# Altium integrated library Lattice CPLD ispMACH 5000B.IntLib: 54 symbols (part 6 of 6)
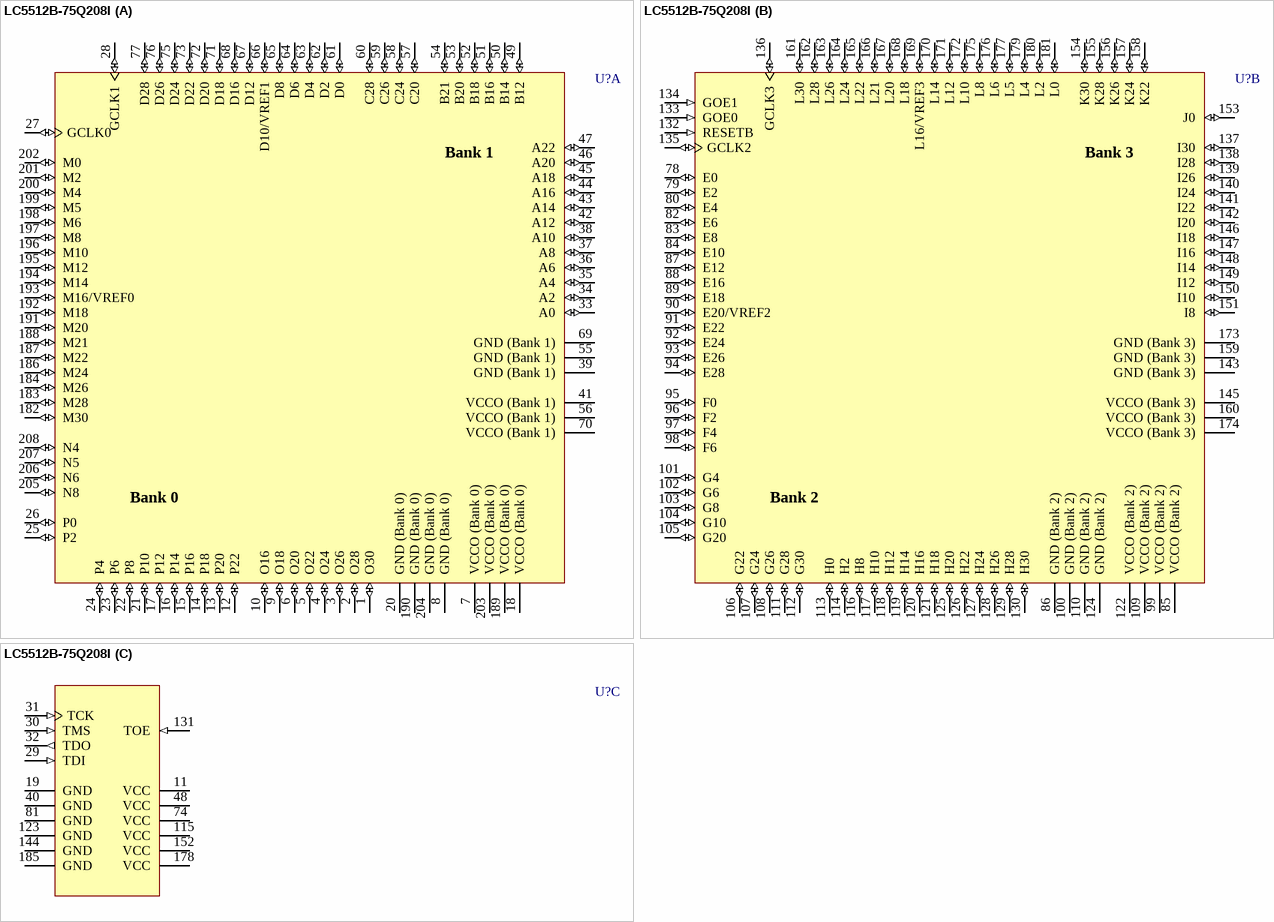
[diagram p49: symbol LC5512B-75Q208I]

## LC5512B-75Q208I
designator U?
ispMACH 5512B SuperWIDE, High Density PLD, 2.5 V, 156 User I/Os, 208-Pin PQFP, 7.5 ns, Industrial Grade; Published: 17-Dec-2003; LatestRevisionDate: 13-Apr-2006; LatestRevisionNote: IPC-7351 Footprint Added.; DatasheetVersion: 5kb_11.1 (Sep-2003); PackageVersion: pkg_32, Aug-2005; PackageReference: PQFP208; Publisher: Altium Limited; PackageDescription: 208-Pin Plastic Quad Flat Pack (PQFP208); Code_JEDEC: MO-143-FAI; ComponentLink1Description: Manufacturer Link; ComponentLink1URL: http://www.latticesemi.com/; ComponentLink2Description: Datasheet; ComponentLink2URL: http://www.latticesemi.com/account/_download.cfm?AMID=4957; ComponentLink3Description: Lattice Login; ComponentLink3URL: http://www.latticesemi.com/account/login.cfm
footprint PQFP208_N (Shrink QFP, 208-Leads, Body 28x28mm, Pitch 0.5mm, IPC Medium Density)
footprint PQFP208_L (Shrink QFP, 208-Leads, Body 28x28mm, Pitch 0.5mm, IPC High Density)
footprint PQFP208_M (Shrink QFP, 208-Leads, Body 28x28mm, Pitch 0.5mm, IPC Low Density)
3D model 5512B-PQFP208 (208-Pin Plastic Quad Flat Pack (PQFP208))
part A pins: 1 O30 (io), 2 O28 (io), 3 O26 (io), 4 O24 (io), 5 O22 (io), 6 O20 (io), 7 VCCO (Bank 0) (power), 8 GND (Bank 0) (power), 9 O18 (io), 10 O16 (io), 12 P22 (io), 13 P20 (io), 14 P18 (io), 15 P16 (io), 16 P14 (io), 17 P12 (io), 18 VCCO (Bank 0) (power), 20 GND (Bank 0) (power), 21 P10 (io), 22 P8 (io), 23 P6 (io), 24 P4 (io), 25 P2 (io), 26 P0 (io), 27 GCLK0 (io), 28 GCLK1 (io), 33 A0 (io), 34 A2 (io), 35 A4 (io), 36 A6 (io), 37 A8 (io), 38 A10 (io), 39 GND (Bank 1) (power), 41 VCCO (Bank 1) (power), 42 A12 (io), 43 A14 (io), 44 A16 (io), 45 A18 (io), 46 A20 (io), 47 A22 (io), 49 B12 (io), 50 B14 (io), 51 B16 (io), 52 B18 (io), 53 B20 (io), 54 B21 (io), 55 GND (Bank 1) (power), 56 VCCO (Bank 1) (power), 57 C20 (io), 58 C24 (io), 59 C26 (io), 60 C28 (io), 61 D0 (io), 62 D2 (io), 63 D4 (io), 64 D6 (io), 65 D8 (io), 66 D10/VREF1 (io), 67 D12 (io), 68 D16 (io), 69 GND (Bank 1) (power), 70 VCCO (Bank 1) (power), 71 D18 (io), 72 D20 (io), 73 D22 (io), 75 D24 (io), 76 D26 (io), 77 D28 (io), 182 M30 (io), 183 M28 (io), 184 M26 (io), 186 M24 (io), 187 M22 (io), 188 M21 (io), 189 VCCO (Bank 0) (power), 190 GND (Bank 0) (power), 191 M20 (io), 192 M18 (io), 193 M16/VREF0 (io), 194 M14 (io), 195 M12 (io), 196 M10 (io), 197 M8 (io), 198 M6 (io), 199 M5 (io), 200 M4 (io), 201 M2 (io), 202 M0 (io), 203 VCCO (Bank 0) (power), 204 GND (Bank 0) (power), 205 N8 (io), 206 N6 (io), 207 N5 (io), 208 N4 (io)
part B pins: 78 E0 (io), 79 E2 (io), 80 E4 (io), 82 E6 (io), 83 E8 (io), 84 E10 (io), 85 VCCO (Bank 2) (power), 86 GND (Bank 2) (power), 87 E12 (io), 88 E16 (io), 89 E18 (io), 90 E20/VREF2 (io), 91 E22 (io), 92 E24 (io), 93 E26 (io), 94 E28 (io), 95 F0 (io), 96 F2 (io), 97 F4 (io), 98 F6 (io), 99 VCCO (Bank 2) (power), 100 GND (Bank 2) (power), 101 G4 (io), 102 G6 (io), 103 G8 (io), 104 G10 (io), 105 G20 (io), 106 G22 (io), 107 G24 (io), 108 G26 (io), 109 VCCO (Bank 2) (power), 110 GND (Bank 2) (power), 111 G28 (io), 112 G30 (io), 113 H0 (io), 114 H2 (io), 116 H8 (io), 117 H10 (io), 118 H12 (io), 119 H14 (io), 120 H16 (io), 121 H18 (io), 122 VCCO (Bank 2) (power), 124 GND (Bank 2) (power), 125 H20 (io), 126 H22 (io), 127 H24 (io), 128 H26 (io), 129 H28 (io), 130 H30 (io), 132 RESETB (in), 133 GOE0 (in), 134 GOE1 (in), 135 GCLK2 (io), 136 GCLK3 (io), 137 I30 (io), 138 I28 (io), 139 I26 (io), 140 I24 (io), 141 I22 (io), 142 I20 (io), 143 GND (Bank 3) (power), 145 VCCO (Bank 3) (power), 146 I18 (io), 147 I16 (io), 148 I14 (io), 149 I12 (io), 150 I10 (io), 151 I8 (io), 153 J0 (io), 154 K30 (io), 155 K28 (io), 156 K26 (io), 157 K24 (io), 158 K22 (io), 159 GND (Bank 3) (power), 160 VCCO (Bank 3) (power), 161 L30 (io), 162 L28 (io), 163 L26 (io), 164 L24 (io), 165 L22 (io), 166 L21 (io), 167 L20 (io), 168 L18 (io), 169 L16/VREF3 (io), 170 L14 (io), 171 L12 (io), 172 L10 (io), 173 GND (Bank 3) (power), 174 VCCO (Bank 3) (power), 175 L8 (io), 176 L6 (io), 177 L5 (io), 179 L4 (io), 180 L2 (io), 181 L0 (io)
part C pins: 11 VCC (power), 19 GND (power), 29 TDI (in), 30 TMS (in), 31 TCK (in), 32 TDO (out), 40 GND (power), 48 VCC (power), 74 VCC (power), 81 GND (power), 115 VCC (power), 123 GND (power), 131 TOE (in), 144 GND (power), 152 VCC (power), 178 VCC (power), 185 GND (power)
part A text: Bank 1; Bank 0
part B text: Bank 3; Bank 2